# EAGLE library part HT12E (library MCE_CircuitosIntegrados)
Encoder
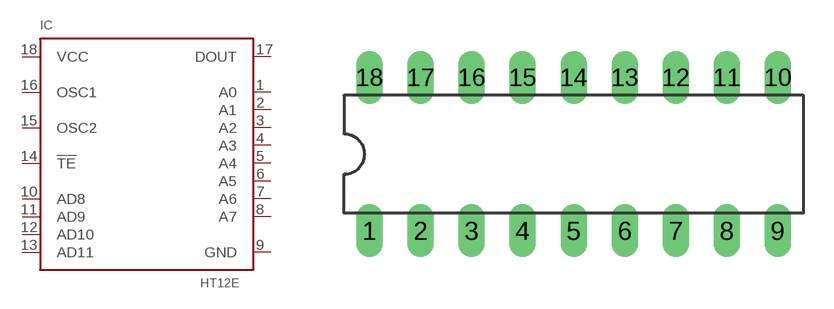
[diagram p2: symbol with the pads of DIL18; footprint DIL18]

Designator prefix IC

## HT12E"  [DIL18]
1  A0  pwr
2  A1  pwr
3  A2  pwr
4  A3  pwr
5  A4  pwr
6  A5  pwr
7  A6  pwr
8  A7  pwr
9  GND  pwr
10  AD8  in
11  AD9  in
12  AD10  in
13  AD11  in
14  !TE  in
15  OSC2  in
16  OSC1  in
17  DOUT  in
18  VCC  pwr

## Footprint DIL18 (pad centres in mm)
Dual In Line Package
drill 0.813 long: 1 -10.16,-3.81; 2 -7.62,-3.81; 3 -5.08,-3.81; 4 -2.54,-3.81; 5 0,-3.81; 6 2.54,-3.81; 7 5.08,-3.81; 8 7.62,-3.81; 9 10.16,-3.81; 10 10.16,3.81; 11 7.62,3.81; 12 5.08,3.81; 13 2.54,3.81; 14 0,3.81; 15 -2.54,3.81; 16 -5.08,3.81; 17 -7.62,3.81; 18 -10.16,3.81